# EAGLE library part LED_RGB_8X8 (library shack)
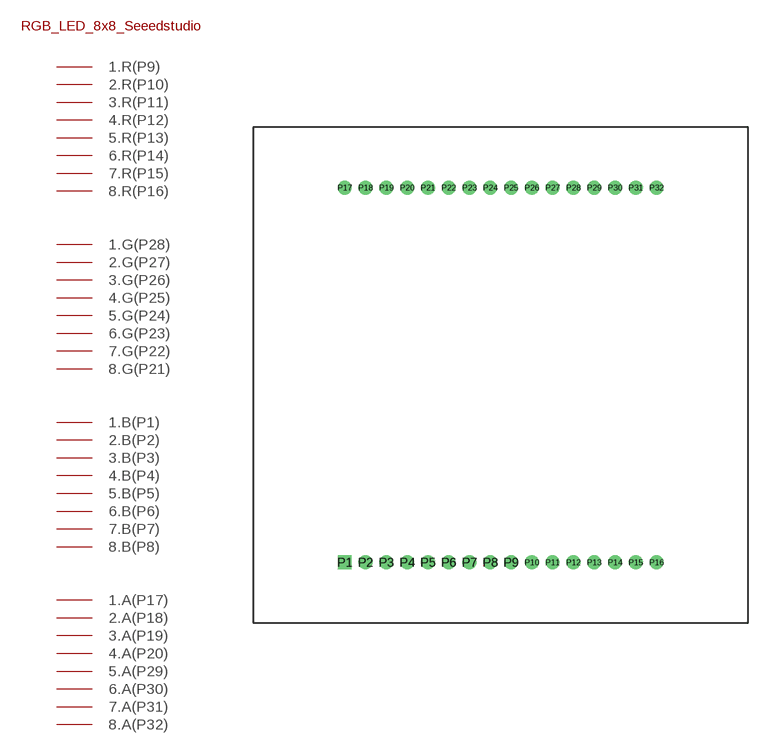
[diagram p11: symbol with the pads of LED_RGB_8X8; footprint LED_RGB_8X8]

Designator prefix -

## LED_RGB_8X8  [LED_RGB_8X8]
P1  1.B(P1)
P2  2.B(P2)
P3  3.B(P3)
P4  4.B(P4)
P5  5.B(P5)
P6  6.B(P6)
P7  7.B(P7)
P8  8.B(P8)
P9  1.R(P9)
P10  2.R(P10)
P11  3.R(P11)
P12  4.R(P12)
P13  5.R(P13)
P14  6.R(P14)
P15  7.R(P15)
P16  8.R(P16)
P17  1.A(P17)
P18  2.A(P18)
P19  3.A(P19)
P20  4.A(P20)
P21  8.G(P21)
P22  7.G(P22)
P23  6.G(P23)
P24  5.G(P24)
P25  4.G(P25)
P26  3.G(P26)
P27  2.G(P27)
P28  1.G(P28)
P29  5.A(P29)
P30  6.A(P30)
P31  7.A(P31)
P32  8.A(P32)

## Footprint LED_RGB_8X8 (pad centres in mm)
drill 0.8 pad 1.676 square: P1 -19.05,-22.88
drill 0.8 pad 1.676: P2 -16.51,-22.88; P3 -13.97,-22.88; P4 -11.43,-22.88; P5 -8.89,-22.88; P6 -6.35,-22.88; P7 -3.81,-22.88; P8 -1.27,-22.88; P9 1.27,-22.88; P10 3.81,-22.88; P11 6.35,-22.88; P12 8.89,-22.88; P13 11.43,-22.88; P14 13.97,-22.88; P15 16.51,-22.88; P16 19.05,-22.88; P17 -19.05,22.88; P18 -16.51,22.88; P19 -13.97,22.88; P20 -11.43,22.88; P21 -8.89,22.88; P22 -6.35,22.88; P23 -3.81,22.88; P24 -1.27,22.88; P25 1.27,22.88; P26 3.81,22.88; P27 6.35,22.88; P28 8.89,22.88; P29 11.43,22.88; P30 13.97,22.88; P31 16.51,22.88; P32 19.05,22.88